# EAGLE library part LTC3816 (library PowerProducts)
LT-Spice library generated with : ltspice.ulp from: D:/Program Files (x86)/LTC/LTspiceIV/lib/sym/PowerProducts/LTC3822-1*.asy at 07.10.2012 18:35:18
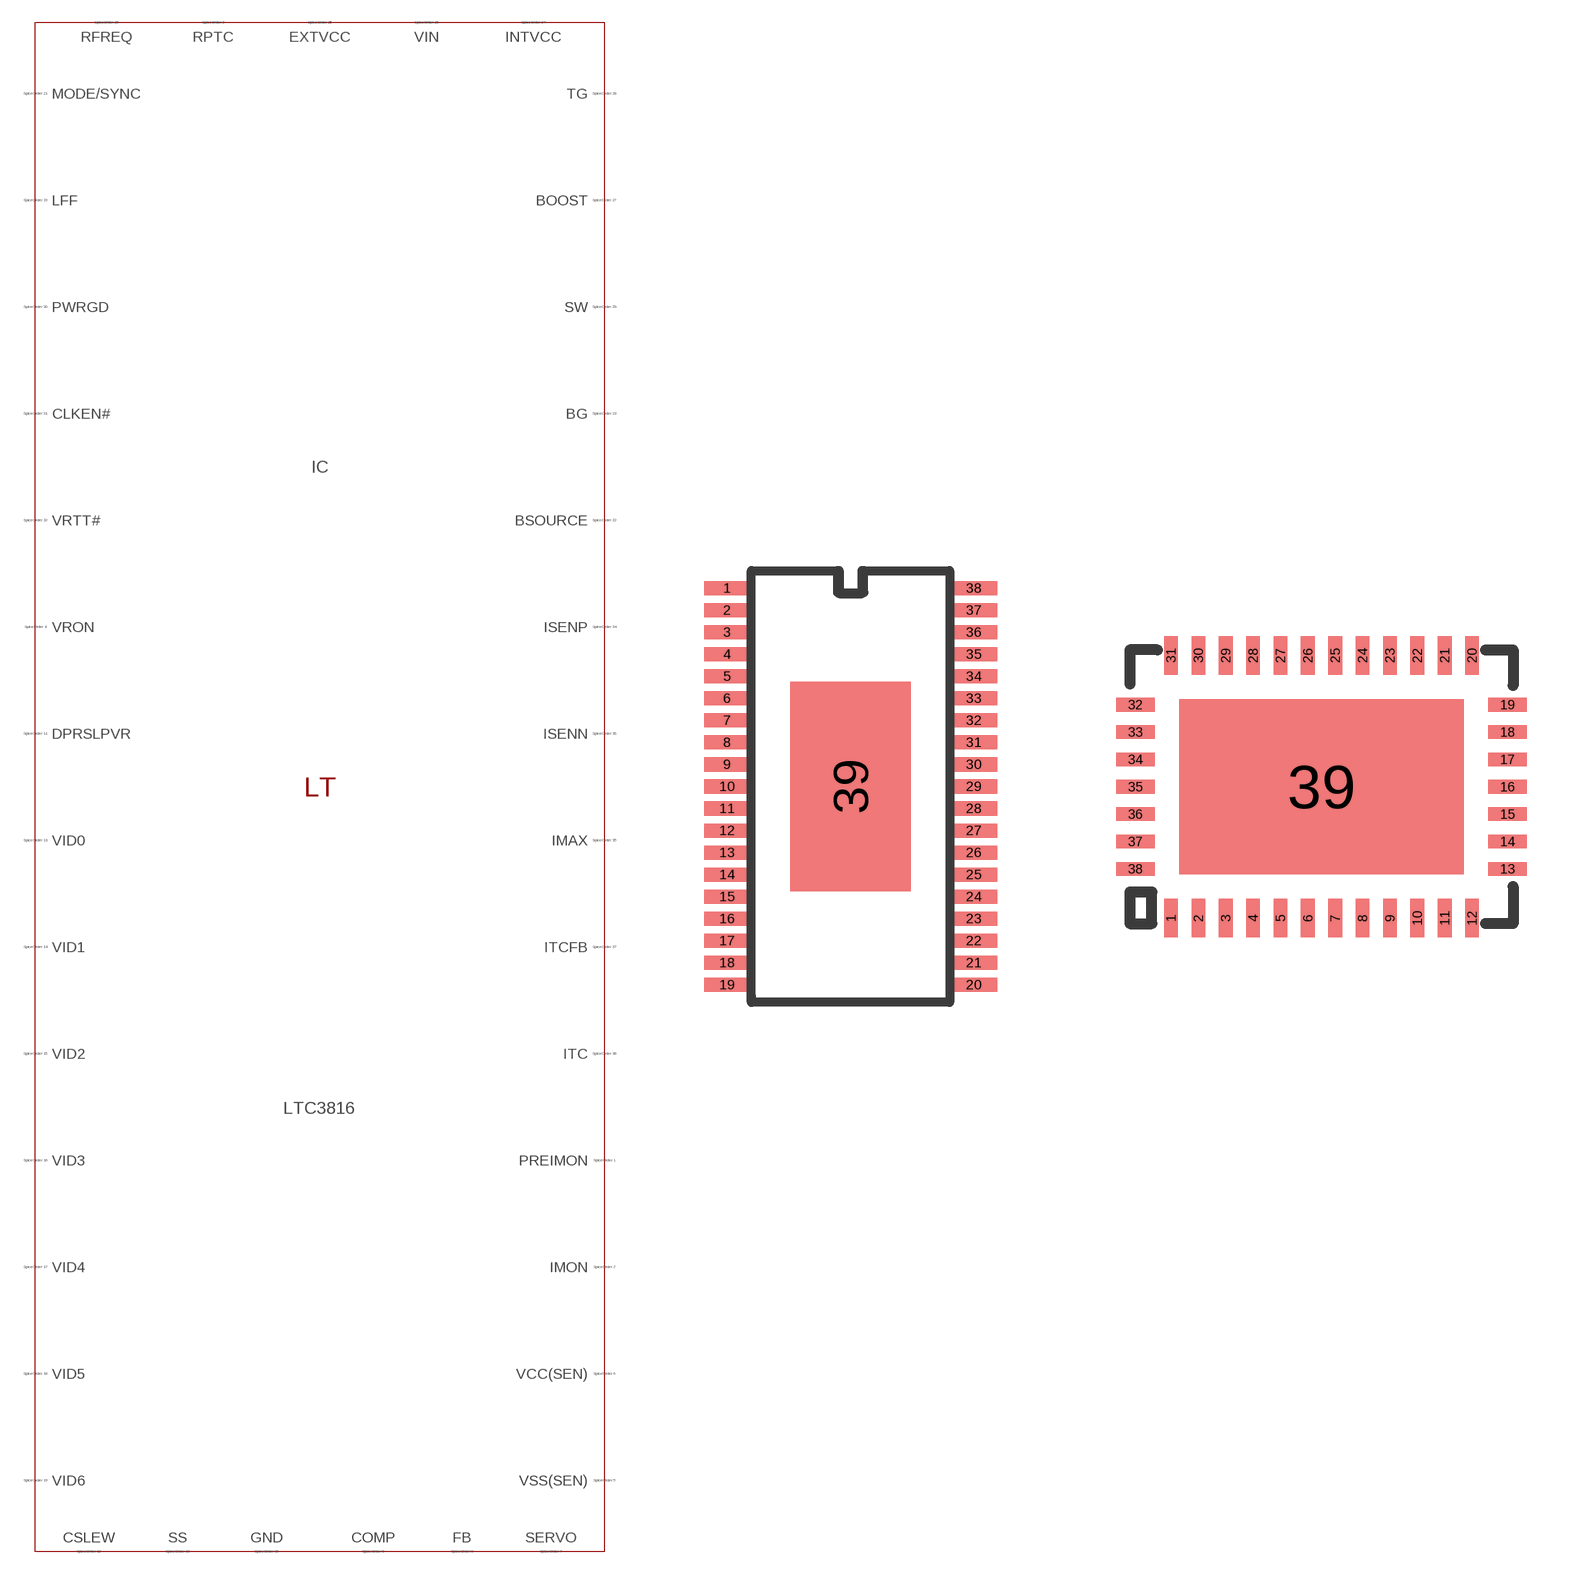
[diagram p347: symbol with the pads of TSSOP38AA(FE); footprints TSSOP38AA(FE), QFN38(UHF)]

Designator prefix IC

## LTC3816 (SPICEMODEL: LTC3816.sub; SPICEPREFIX: X; VALUE2: LTC3816)  [TSSOP38AA(FE)]
1  ISENN  pas
2  ITCFB  pas
3  ITC  pas
4  PREIMON  pas
5  IMON  pas
6  RPTC  pas
7  VRON  pas
8  VSS(SEN)  pas
9  VCC(SEN)  pas
10  SERVO  pas
11  FB  pas
12  COMP  pas
13  SS  pas
14  DPRSLPVR  pas
15  CSLEW  pas
16  VID0  pas
17  VID1  pas
18  VID2  pas
19  VID3  pas
20  VID4  pas
21  VID5  pas
22  VID6  pas
23  RFREQ  pas
24  MODE/SYNC  pas
25  BSOURCE  pas
26  BG  pas
27  INTVCC  pas
28  EXTVCC  pas
29  VIN  pas
30  BOOST  pas
31  TG  pas
32  SW  pas
33  PWRGD  pas
34  CLKEN#  pas
35  VRTT#  pas
36  LFF  pas
37  ISENP  pas
38  IMAX  pas
39  GND  pas

## LTC3816UHF (SPICEMODEL: LTC3816.sub; SPICEPREFIX: X; VALUE2: LTC3816)  [QFN38(UHF)]
1  PREIMON  pas
2  IMON  pas
3  RPTC  pas
4  VRON  pas
5  VSS(SEN)  pas
6  VCC(SEN)  pas
7  SERVO  pas
8  FB  pas
9  COMP  pas
10  SS  pas
11  DPRSLPVR  pas
12  CSLEW  pas
13  VID0  pas
14  VID1  pas
15  VID2  pas
16  VID3  pas
17  VID4  pas
18  VID5  pas
19  VID6  pas
20  RFREQ  pas
21  MODE/SYNC  pas
22  BSOURCE  pas
23  BG  pas
24  INTVCC  pas
25  EXTVCC  pas
26  VIN  pas
27  BOOST  pas
28  TG  pas
29  SW  pas
30  PWRGD  pas
31  CLKEN#  pas
32  VRTT#  pas
33  LFF  pas
34  ISENP  pas
35  IMAX  pas
36  ISENN  pas
37  ITCFB  pas
38  ITC  pas
39  GND  pas

## Footprint TSSOP38AA(FE) (pad centres in mm)
Package generated from: TSSOP38AA(FE).asc (!PADS-POWERPCB-V9.3-BASIC! DESIGN DATABASE ASCII FILE 1.0) with :import-pads-powerpcb-v5.ulp Version 1.0.1 at 04.10.2012 14:11:40
smd 1.575 x 0.48: 1 -4.2,6.75; 2 -4.2,6; 3 -4.2,5.25; 4 -4.2,4.5; 5 -4.2,3.75; 6 -4.2,3; 7 -4.2,2.25; 8 -4.2,1.5; 9 -4.2,0.75; 10 -4.2,0; 11 -4.2,-0.75; 12 -4.2,-1.5; 13 -4.2,-2.25; 14 -4.2,-3; 15 -4.2,-3.75; 16 -4.2,-4.5; 17 -4.2,-5.25; 18 -4.2,-6; 19 -4.2,-6.75; 20 4.2,-6.75; 21 4.2,-6; 22 4.2,-5.25; 23 4.2,-4.5; 24 4.2,-3.75; 25 4.2,-3; 26 4.2,-2.25; 27 4.2,-1.5; 28 4.2,-0.75; 29 4.2,0; 30 4.2,0.75; 31 4.2,1.5; 32 4.2,2.25; 33 4.2,3; 34 4.2,3.75; 35 4.2,4.5; 36 4.2,5.25; 37 4.2,6; 38 4.2,6.75
smd 4.11 x 7.125: 39 0,0

## Footprint QFN38(UHF) (pad centres in mm)
Package generated from: QFN38(UHF).asc (!PADS-POWERPCB-V5.0-BASIC! DESIGN DATABASE ASCII FILE 1.0) with :import-pads-powerpcb-v5.ulp Version 1.0.1 at 04.10.2012 14:11:28
smd 0.375 x 1.05: 1 -4.125,-3.6; 2 -3.375,-3.6; 3 -2.625,-3.6; 4 -1.875,-3.6; 5 -1.125,-3.6; 6 -0.375,-3.6; 7 0.375,-3.6; 8 1.125,-3.6; 9 1.875,-3.6; 10 2.625,-3.6; 11 3.375,-3.6; 12 4.125,-3.6; 20 4.125,3.6; 21 3.375,3.6; 22 2.625,3.6; 23 1.875,3.6; 24 1.125,3.6; 25 0.375,3.6; 26 -0.375,3.6; 27 -1.125,3.6; 28 -1.875,3.6; 29 -2.625,3.6; 30 -3.375,3.6; 31 -4.125,3.6
smd 1.05 x 0.375: 13 5.1,-2.25; 14 5.1,-1.5; 15 5.1,-0.75; 16 5.1,0; 17 5.1,0.75; 18 5.1,1.5; 19 5.1,2.25; 32 -5.1,2.25; 33 -5.1,1.5; 34 -5.1,0.75; 35 -5.1,0; 36 -5.1,-0.75; 37 -5.1,-1.5; 38 -5.1,-2.25
smd 7.8 x 4.8: 39 0,0